# Altium footprint library iTimeAfrica_Footprints.PcbLib: 27 footprints (part 2 of 2)
Each footprint in its own frame and in the unit in brackets; x right, y up, seen from the top. Pads: shape width x height; smd on the part's side, far side on the other; paste and mask are expansions set on the pad; w line width, h text height; cw(c..) or ccw(c..) is an arc to the next point about the centre after c.
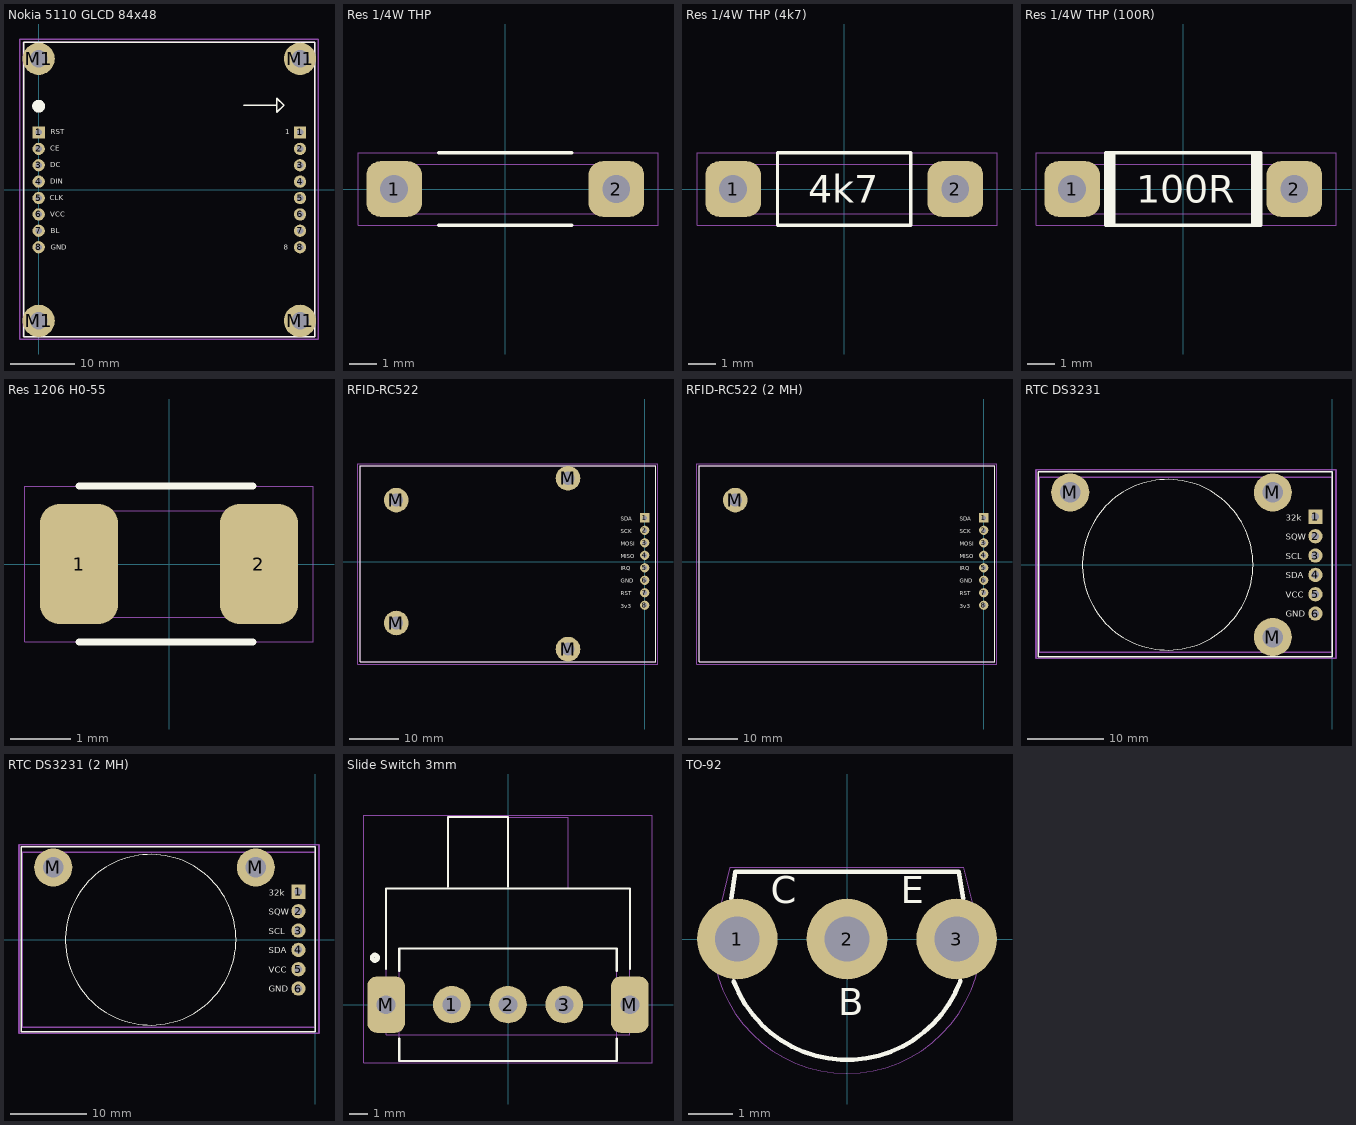
[diagram p1: the footprints below, top view; thin cyan lines are the x and y axes]

## Nokia 5110 GLCD 84x48 [mm] "Nokia 5110 GLCD 84x48"
pads (20):
  rect 1.9x1.9 hole 1: 1(0,8.89) 1(40.5,8.89)
  round 1.9 hole 1: 2(0,6.35) 2(40.5,6.35) 3(0,3.81) 3(40.5,3.81) 4(0,1.27) 4(40.5,1.27) 5(0,-1.27) 5(40.5,-1.27) 6(0,-3.81) 6(40.5,-3.81) 7(0,-6.35) 7(40.5,-6.35) 8(0,-8.89) 8(40.5,-8.89)
  round 5 hole 2.7: M1(0,-20.3) M1(0,20.3) M1(40.5,-20.3) M1(40.5,20.3)
Top Overlay:
  circle w1: c0,12.954 r0.5
  lines w0.203: -2.286,-22.733 -2.286,22.86 42.799,22.86 42.799,-22.733 -2.286,-22.733
  lines w0.254: 31.8,13.1 36.9,13.1 ; 36.9,12 38,13.1 36.9,14.2 36.9,13 36.9,12
  text "BL" at 1.905,-6.721 h0.8
  text "VCC" at 1.805,-4.163 h0.8
  text "CLK" at 1.705,-1.605 h0.8
  text "DIN" at 1.805,0.954 h0.8
  text "DC" at 1.805,3.512 h0.8
  text "CE" at 1.805,6.07 h0.8
  text "RST" at 1.905,8.628 h0.8
  text "1" at 38.2,8.6 h0.8
  text "GND" at 1.905,-9.279 h0.8
  text "8" at 38,-9.3 h0.8
Mechanical 11:
  lines w0.203: -2.413,-22.733 -2.413,22.86 42.799,22.86 42.799,-22.733 -2.413,-22.733
  text ".Designator" at 5.337,4.961 h0.8
Mechanical 15:
  lines w0.203: -2.921,-23.114 -2.921,23.368 43.307,23.368 43.307,-23.114 -2.921,-23.114
3D body "User Library-LCD5110R-1.step": height 9.59, standoff 3.69, extent -2.18,-22.5 42.82,22.5
3D body: height 5, standoff -1, extent -0.496,-9.389 0.5,-8.391
3D body: height 5, standoff -1, extent -0.496,-6.849 0.5,-5.851
3D body: height 5, standoff -1, extent -0.496,-4.309 0.5,-3.311
3D body: height 5, standoff -1, extent -0.496,-1.999 0.5,-1.001
3D body: height 5, standoff -1, extent -0.496,0.771 0.5,1.769
3D body: height 5, standoff -1, extent -0.496,3.311 0.5,4.309
3D body: height 5, standoff -1, extent -0.496,5.851 0.5,6.849
3D body: height 5, standoff -1, extent -0.496,8.391 0.5,9.389
3D body: height 5, standoff -1, extent 40.004,-9.389 41,-8.391
3D body: height 5, standoff -1, extent 40.004,-6.849 41,-5.851
3D body: height 5, standoff -1, extent 40.004,-4.309 41,-3.311
3D body: height 5, standoff -1, extent 40.004,-1.769 41,-0.771
3D body: height 5, standoff -1, extent 40.004,0.771 41,1.769
3D body: height 5, standoff -1, extent 40.004,3.311 41,4.309
3D body: height 5, standoff -1, extent 40.004,5.851 41,6.849
3D body: height 5, standoff -1, extent 40.004,8.391 41,9.389

## Res 1/4W THP [mm]
height 4
pads (2):
  rrect50% 2x2 hole 1: 1(-4,0) 2(4,0)
Top Overlay:
  lines w0.12: -2.4,-1.3 2.4,-1.3 ; -2.4,1.3 2.4,1.3
Mechanical 9:
  text "V2.0" at -0.35,-0.1 h0.2
Mechanical 11:
  lines w0.02: -4.7,-0.889 -4.7,0.889 4.7,0.889 4.7,-0.889 -4.7,-0.889
  text ".Designator" at -2,-0.5 h0.8
Mechanical 15:
  lines w0.02: -5.3,-1.3 -5.3,1.3 5.5,1.3 5.5,-1.3 -5.3,-1.3
3D body "RESISTOR, 0_25 W, 0_4 IN LEAD PITCH.step": height 2.93, standoff -2.54, extent -5.305,-1.156 5.465,1.156

## Res 1/4W THP (4k7) [mm]
height 4
pads (2):
  rrect50% 2x2 hole 1: 1(-4,0) 2(4,0)
Top Overlay:
  lines w0.12: -2.4,-1.3 2.4,-1.3 2.4,1.3 -2.4,1.3 -2.4,-1.3
  text "4k7" at -1.3,-0.5 h1
Mechanical 9:
  text "V2.0" at -0.35,-0.1 h0.2
Mechanical 11:
  lines w0.02: -4.7,-0.889 -4.7,0.889 4.7,0.889 4.7,-0.889 -4.7,-0.889
  text ".Designator" at -2,-0.5 h0.8
Mechanical 15:
  lines w0.02: -5.3,-1.3 -5.3,1.3 5.5,1.3 5.5,-1.3 -5.3,-1.3
3D body "RESISTOR, 0_25 W, 0_4 IN LEAD PITCH.step": height 2.93, standoff -2.54, extent -5.305,-1.156 5.465,1.156

## Res 1/4W THP (100R) [mm]
height 4
pads (2):
  rrect50% 2x2 hole 1: 1(-4,0) 2(4,0)
Top Overlay:
  lines w0.12: -2.7,-1.3 -2.7,1.3 ; -2.6,-1.3 -2.6,1.3 ; -2.5,-1.3 -2.5,1.3 ; 2.5,-1.3 2.5,1.3 ; 2.6,-1.3 2.6,1.3 ; 2.7,-1.3 2.7,1.3 ; -2.8,-1.3 2.8,-1.3 2.8,1.3 -2.8,1.3 -2.8,-1.3
  text "100R" at -1.7,-0.5 h1
Mechanical 9:
  text "V2.0" at -0.35,-0.1 h0.2
Mechanical 11:
  lines w0.02: -4.7,-0.889 -4.7,0.889 4.7,0.889 4.7,-0.889 -4.7,-0.889
  text ".Designator" at -2,-0.5 h0.8
Mechanical 15:
  lines w0.02: -5.3,-1.3 -5.3,1.3 5.5,1.3 5.5,-1.3 -5.3,-1.3
3D body "RESISTOR, 0_25 W, 0_4 IN LEAD PITCH.step": height 2.93, standoff -2.54, extent -5.305,-1.156 5.465,1.156

## Res 1206 H0-55 [mm]
pads (2):
  rrect50% 1.3x2 smd: 1(-1.5,0) 2(1.5,0)
Top Overlay:
  lines w0.12: -1.5,-1.3 1.4,-1.3 ; -1.5,1.3 1.4,1.3
Mechanical 9:
  text "V2.0" at -0.35,-0.1 h0.2
Mechanical 11:
  lines w0.02: -1.651,-0.889 1.651,-0.889 1.651,0.889 -1.651,0.889 -1.651,-0.889
  text ".Designator" at -2,-0.5 h0.8
Mechanical 15:
  lines w0.02: -2.4,-1.3 2.4,-1.3 2.4,1.3 -2.4,1.3 -2.4,-1.3
3D body "Res 1206.STEP": height 0.55, standoff 0, extent -1.55,-0.8 1.55,0.8

## RFID-RC522 [mm] "RFID-RC522"
height 7
pads (12):
  rect 1.88x1.88 hole 1: 1(0,8.89)
  round 1.88 hole 1: 2(0,6.35) 3(0,3.81) 4(0,1.27) 5(0,-1.27) 6(0,-3.81) 7(0,-6.35) 8(0,-8.89)
  round 5 hole 2.7: M(-50.5,-12.5) M(-50.5,12.5) M(-15.6,-17.8) M(-15.6,16.95)
Top Overlay:
  lines w0.203: -57.8,-20.4 -57.8,19.5 2.2,19.5 2.2,-20.4 -57.8,-20.4
  text "SDA" at -4.9,8.3 h0.8
  text "SCK" at -4.9,5.771 h0.8
  text "MOSI" at -4.9,3.243 h0.8
  text "MISO" at -4.9,0.714 h0.8
  text "IRQ" at -4.9,-1.814 h0.8
  text "GND" at -4.9,-4.343 h0.8
  text "RST" at -4.9,-6.871 h0.8
  text "3v3" at -4.9,-9.5 h0.8
Mechanical 9:
  text "v1.1" at -29.8,-6.7 h1.52
Mechanical 11:
  lines w0.203: -57.8,-20.4 -57.8,19.5 2.2,19.5 2.2,-20.4 -57.8,-20.4
  text ".Designator" at -30.223,-7.739 h0.8
Mechanical 15:
  lines w0.203: -58.3,-20.9 -58.3,19.9 2.7,19.9 2.7,-20.9 -58.3,-20.9
3D body "RFID-RC522.stp": height 13.24, standoff 1.7, extent -57.8,-20.4 2.2,19.6

## RFID-RC522 (2 MH) [mil] "RFID-RC522"
height 275.59
pads (9):
  rect 74x74 hole 39.37: 1(0,350)
  round 74 hole 39.37: 2(0,250) 3(0,150) 4(0,50) 5(0,-50) 6(0,-150) 7(0,-250) 8(0,-350)
  round 196.85 hole 106.3: M(-1988.19,492.13)
Top Overlay:
  lines w8: -2275.59,-803.15 -2275.59,767.72 86.61,767.72 86.61,-803.15 -2275.59,-803.15
  text "SDA" at -192.91,326.77 h31.5
  text "SCK" at -192.91,227.22 h31.5
  text "MOSI" at -192.91,127.67 h31.5
  text "MISO" at -192.91,28.12 h31.5
  text "IRQ" at -192.91,-71.43 h31.5
  text "GND" at -192.91,-170.98 h31.5
  text "RST" at -192.91,-270.53 h31.5
  text "3v3" at -192.91,-374.02 h31.5
Mechanical 9:
  text "v1.2" at -1173.23,-263.78 h60
Mechanical 11:
  lines w8: -2275.59,-803.15 -2275.59,767.72 86.61,767.72 86.61,-803.15 -2275.59,-803.15
  text ".Designator" at -1189.88,-304.69 h31.5
Mechanical 15:
  lines w8: -2295.28,-822.83 -2295.28,783.46 106.3,783.46 106.3,-822.83 -2295.28,-822.83
3D body "RFID-RC522.stp": height 521.26, standoff 66.93, extent -2275.59,-803.15 86.61,771.65

## RTC DS3231 [mm] "Real time clock DS3231"
height 12
pads (9):
  rect 1.88x1.88 hole 1: 1(-2.2,6.29)
  round 1.88 hole 1: 2(-2.2,3.75) 3(-2.2,1.21) 4(-2.2,-1.33) 5(-2.2,-3.87) 6(-2.2,-6.41)
  round 5 hole 2.7: M(-34.4,9.5) M(-7.8,-9.5) M(-7.8,9.5)
Top Overlay:
  circle w0.1: c-21.6,0 r11.2
  lines w0.203: -38.6,-12.1 -38.6,12.2 0,12.2 0,-12.1 -38.6,-12.1
  text "32k" at -6.1,5.8 h0.8
  text "SQW" at -6.1,3.271 h0.8
  text "SCL" at -6.1,0.743 h0.8
  text "SDA" at -6.1,-1.786 h0.8
  text "VCC" at -6.1,-4.314 h0.8
  text "GND" at -6.1,-6.843 h0.8
Mechanical 9:
  text "v1.3" at -22.4,-0.9 h1.52
Mechanical 11:
  lines w0.203: -38.5,-11.5 -38.5,11.5 0,11.5 0,-11.5 -38.5,-11.5
  text ".Designator" at -22,-2.3 h0.8
Mechanical 15:
  lines w0.203: -38.9,-12.3 -38.9,12.5 0.5,12.5 0.5,-12.3 -38.9,-12.3
3D body: height 6, standoff -1, extent -2.696,5.791 -1.7,6.789
3D body: height 6, standoff -1, extent -2.696,3.251 -1.7,4.249
3D body: height 6, standoff -1, extent -2.696,0.711 -1.7,1.709
3D body: height 6, standoff -1, extent -2.696,-1.829 -1.7,-0.831
3D body: height 6, standoff -1, extent -2.696,-4.399 -1.7,-3.401
3D body: height 6, standoff -1, extent -2.698,-6.9 -1.702,-5.902
3D body: height 13, standoff 4, extent -32.8,-11.2 -10.4,11.2
3D body: height 6.5, standoff 5, extent -39,-11.5 -0.5,11.5

## RTC DS3231 (2 MH) [mm] "Real time clock DS3231"
height 12
pads (8):
  rect 1.88x1.88 hole 1: 1(-2.2,6.29)
  round 1.88 hole 1: 2(-2.2,3.75) 3(-2.2,1.21) 4(-2.2,-1.33) 5(-2.2,-3.87) 6(-2.2,-6.41)
  round 5 hole 2.7: M(-34.4,9.5) M(-7.8,9.5)
Top Overlay:
  circle w0.1: c-21.6,0 r11.2
  lines w0.203: -38.6,-12.1 0,-12.1 0,12.2 -38.6,12.2 -38.6,-12.1
  text "GND" at -6.1,-6.843 h0.8
  text "VCC" at -6.1,-4.314 h0.8
  text "SDA" at -6.1,-1.786 h0.8
  text "SCL" at -6.1,0.743 h0.8
  text "SQW" at -6.1,3.271 h0.8
  text "32k" at -6.1,5.8 h0.8
Mechanical 9:
  text "v1.3" at -22.4,-0.9 h1.52
Mechanical 11:
  lines w0.203: -38.5,-11.5 0,-11.5 0,11.5 -38.5,11.5 -38.5,-11.5
  text ".Designator" at -22,-2.3 h0.8
Mechanical 15:
  lines w0.203: -38.9,-12.3 0.5,-12.3 0.5,12.5 -38.9,12.5 -38.9,-12.3
3D body: height 6.5, standoff 5, extent -39,-11.5 -0.5,11.5
3D body: height 13, standoff 4, extent -32.8,-11.2 -10.4,11.2
3D body: height 6, standoff -1, extent -2.698,-6.9 -1.702,-5.902
3D body: height 6, standoff -1, extent -2.696,-4.399 -1.7,-3.401
3D body: height 6, standoff -1, extent -2.696,-1.829 -1.7,-0.831
3D body: height 6, standoff -1, extent -2.696,0.711 -1.7,1.709
3D body: height 6, standoff -1, extent -2.696,3.251 -1.7,4.249
3D body: height 6, standoff -1, extent -2.696,5.791 -1.7,6.789

## Slide Switch 3mm [mm] "3 pin, 3mm pitch  Verticla or Right angle"
height 8
pads (5):
  round 2 hole 1: 1(-3,0) 2(0,0) 3(3,0)
  rrect50% 2x3 hole 1: M(-6.5,0) M(6.5,0)
Top Overlay:
  circle w0.254: c-7.1,2.5 r0.141
  lines w0.12: -6.5,1.9 -6.5,6.2 6.5,6.2 6.5,1.9 ; -5.8,-1.8 -5.8,-3 5.8,-3 5.8,-1.8 ; -5.8,1.8 -5.8,3 5.8,3 5.8,1.8 ; -3.2,6.3 -3.2,10 0,10 0,6.3
Mechanical 9:
  text "P2624616678 / I2974945876 / 3 pin 3mm pitch  Verticla or Right angle" at -1.1,1.7 h0.2
Mechanical 11:
  lines w0.02: -6.5,-1.6 6.5,-1.6 6.5,6.2 -6.5,6.2 -6.5,-1.6 ; -5.8,-3 -5.8,3 5.8,3 5.8,-3 -5.8,-3 ; -3.2,6.2 3.2,6.2 3.2,10 -3.2,10 -3.2,6.2
  text ".Designator" at -2,-0.5 h0.8
Mechanical 15:
  lines w0.02: -7.7,-3.1 -7.7,10.1 7.7,10.1 7.7,-3.1 -7.7,-3.1
3D body: height 5, standoff 0, extent -5.8,-3 5.8,3
3D body: height 8, standoff 5, extent -3.05,-0.8 -0.35,0.8

## TO-92 [mm]
pads (3):
  round 1.8 hole 1: 1(-2.45,0) 2(0,0) 3(2.45,0)
Top Overlay:
  lines w0.1: -2.58,0.897 -2.5,1.5 2.5,1.5 2.6,0.9 ; -2.528,-0.948 ccw(c0,0) 2.532,-0.938
  text "B" at -0.2,-1.7 h0.6
  text "E" at 1.2,0.8 h0.6
  text "C" at -1.7,0.8 h0.6
Mechanical 11:
  lines w0.02: -2.7,0 ccw(c0,0) 2.7,0 2.5,1.5 -2.5,1.5 -2.7,0
  text ".Designator" at -2,-0.5 h0.8
Mechanical 15:
  lines w0.02: -3.002,-0.024 -2.612,1.6 2.6,1.6 3,0 cw(c0,0) -3,0
3D body "User Library-TO-92-1.STEP": height 7.5, standoff -0.2, extent -2.79,-2.371 2.79,1.6